# EAGLE library part RT6150B-33GQW (library FaBo-Supply)
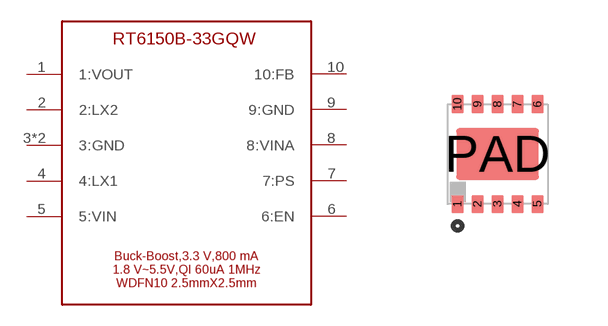
[diagram p19: symbol with the pads of WDFN-10L_2.5X2.5MM; footprint WDFN-10L_2.5X2.5MM]

Designator prefix -

## RT6150B-33GQW  [WDFN-10L_2.5X2.5MM]
1  1:VOUT  sup
2  2:LX2  in
3  3:GND  pwr
4  4:LX1  out
5  5:VIN  pwr
6  6:EN  in
7  7:PS  in
8  8:VINA  in
9  9:GND  pwr
10  10:FB  in
PAD  3:GND  pwr

## Footprint WDFN-10L_2.5X2.5MM (pad centres in mm)
WDFN-10L 2.5x2.5mm package
smd 0.3 x 0.45: 1 -1,-1.25; 2 -0.5,-1.25; 3 0,-1.25; 4 0.5,-1.25; 5 1,-1.25; 6 1,1.25; 7 0.5,1.25; 8 0,1.25; 9 -0.5,1.25; 10 -1,1.25
smd 2.07 x 1.3: PAD 0,0